# Altium footprint library sipex.PCBLIB: 3 footprints
Each footprint in its own frame and in the unit in brackets; x right, y up, seen from the top. Pads: shape width x height; smd on the part's side, far side on the other; paste and mask are expansions set on the pad; w line width, h text height; cw(c..) or ccw(c..) is an arc to the next point about the centre after c.
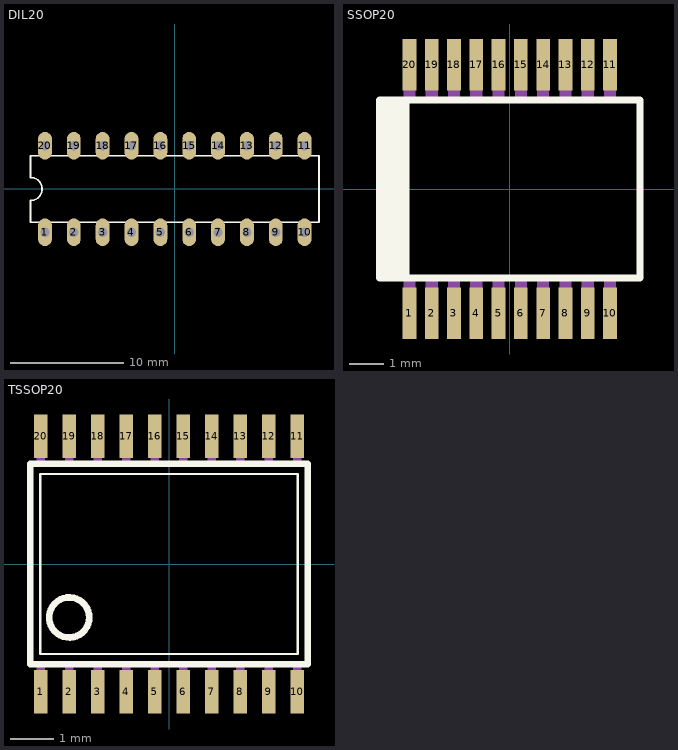
[diagram p0: the footprints below, top view; thin cyan lines are the x and y axes]

## DIL20 [mil]
pads (20):
  oval 48x96 hole 32: 1(-450,-150) 2(-350,-150) 3(-250,-150) 4(-150,-150) 5(-50,-150) 6(50,-150) 7(150,-150) 8(250,-150) 9(350,-150) 10(450,-150) 11(450,150) 12(350,150) 13(250,150) 14(150,150) 15(50,150) 16(-50,150) 17(-150,150) 18(-250,150) 19(-350,150) 20(-450,150)
Top Overlay:
  lines w6: -500,-115 500,-115 500,115 -500,115 -500,40 cw(c-500,0) -500,-40 -500,-115

## SSOP20 [mil]
pads (20):
  rect 15.75x59.06 smd: 1(-115.16,-142.72) 2(-89.57,-142.72) 3(-63.98,-142.72) 4(-38.39,-142.72) 5(-12.8,-142.72) 6(12.8,-142.72) 7(38.39,-142.72) 8(63.98,-142.72) 9(89.57,-142.72) 10(115.16,-142.72) 11(115.16,142.72) 12(89.57,142.72) 13(63.98,142.72) 14(38.39,142.72) 15(12.8,142.72) 16(-12.8,142.72) 17(-38.39,142.72) 18(-63.98,142.72) 19(-89.57,142.72) 20(-115.16,142.72)
Top Overlay:
  rectangle: -153.54,-102.36 -115.16,102.36
  lines w8: -149.61,-102.36 149.61,-102.36 149.61,102.36 -149.61,102.36
Mechanical 16:
  rectangle: -122.16,-155 -108.16,-104
  rectangle: -96.57,-155 -82.57,-104
  rectangle: -70.98,-155 -56.98,-104
  rectangle: -45.39,-155 -31.39,-104
  rectangle: -19.8,-155 -5.8,-104
  rectangle: 5.79,-155 19.79,-104
  rectangle: 31.38,-155 45.38,-104
  rectangle: 56.98,-155 70.98,-104
  rectangle: 82.57,-155 96.57,-104
  rectangle: 108.16,-155 122.16,-104
  rectangle: 108.15,104 122.15,155
  rectangle: 82.56,104 96.56,155
  rectangle: 56.97,104 70.97,155
  rectangle: 31.39,104 45.39,155
  rectangle: 5.8,104 19.8,155
  rectangle: -19.79,104 -5.79,155
  rectangle: -45.38,104 -31.38,155
  rectangle: -70.97,104 -56.97,155
  rectangle: -96.56,104 -82.56,155
  rectangle: -122.15,104 -108.15,155

## TSSOP20 [mil]
pads (20):
  rect 12x39 smd: 1(-115.16,-114.87) 2(-89.57,-114.87) 3(-63.98,-114.87) 4(-38.39,-114.87) 5(-12.8,-114.87) 6(12.8,-114.87) 7(38.39,-114.87) 8(63.98,-114.87) 9(89.57,-114.87) 10(115.16,-114.87) 11(115.16,114.87) 12(89.57,114.87) 13(63.98,114.87) 14(38.39,114.87) 15(12.8,114.87) 16(-12.8,114.87) 17(-38.39,114.87) 18(-63.98,114.87) 19(-89.57,114.87) 20(-115.16,114.87)
Top Overlay:
  circle w6: c-89.59,-48 r18
  lines w2: -115.59,-80.87 115.59,-80.87 115.59,80.87 -115.59,80.87 -115.59,-80.87
  lines w6: -124.59,-89.87 124.59,-89.87 124.59,89.87 -124.59,89.87 -124.59,-89.87
Mechanical 16:
  rectangle: -119.16,-122.87 -111.16,-89.87
  rectangle: -93.57,-122.87 -85.57,-89.87
  rectangle: -67.98,-122.87 -59.98,-89.87
  rectangle: -42.39,-122.87 -34.39,-89.87
  rectangle: -16.8,-122.87 -8.8,-89.87
  rectangle: 8.8,-122.87 16.8,-89.87
  rectangle: 34.39,-122.87 42.39,-89.87
  rectangle: 59.98,-122.87 67.98,-89.87
  rectangle: 85.57,-122.87 93.57,-89.87
  rectangle: 111.16,-122.87 119.16,-89.87
  rectangle: 111.16,89.87 119.16,122.87
  rectangle: 85.57,89.87 93.57,122.87
  rectangle: 59.98,89.87 67.98,122.87
  rectangle: 34.39,89.87 42.39,122.87
  rectangle: 8.8,89.87 16.8,122.87
  rectangle: -16.8,89.87 -8.8,122.87
  rectangle: -42.39,89.87 -34.39,122.87
  rectangle: -67.98,89.87 -59.98,122.87
  rectangle: -93.57,89.87 -85.57,122.87
  rectangle: -119.16,89.87 -111.16,122.87